# EAGLE library part HCPL7800 (library optocoupler-3-jcn)
Isolation Amplifer Features : 15 kV/us Common-Mode Rejection at VCM = 1000 V Compact, Auto-Insertable Standard 8-pin DIP Package 0.00025 V/V/°C Gain Drift vs. Temperature 0.3 mV Input Offset Voltage 100 kHz Bandwidth 0.004% Nonlinearity Worldwide Safety Approval: UL 1577 (3750 Vrms/1 min.) and CSA, IEC/EN/DIN EN 60747-5-2 Advanced Sigma-Delta (???) A/D Converter Technology Fully Differential Circuit Topology
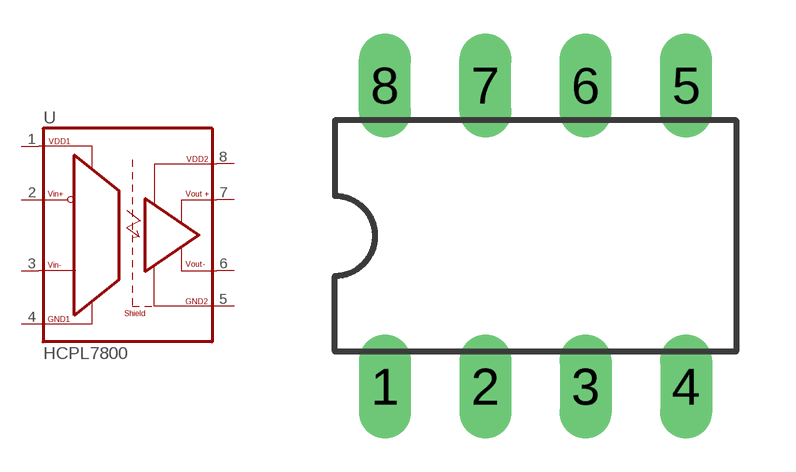
[diagram p48: symbol with the pads of DIL08; footprint DIL08]

Designator prefix -

## HCPL7800  [DIL08]
1  VDD1  pas
2  VIN+  pas
3  VIN-  pas
4  GND1  pas
5  GND2  pas
6  VOUT-  pas
7  VOUT+  pas
8  VDD2  pas

## Footprint DIL08 (pad centres in mm)
Dual In Line Package
drill 0.813 long: 1 -3.81,-3.81; 2 -1.27,-3.81; 3 1.27,-3.81; 4 3.81,-3.81; 5 3.81,3.81; 6 1.27,3.81; 7 -1.27,3.81; 8 -3.81,3.81